# EAGLE library part TPS5124 (library zz-m-pad-2.1)
Ti's TPS5124 dual channel, synchronous step-down PWM controller Description: The TPS5124 is dual independent high efficiency synchronous step-down controller. It supports a low-voltage/high-current power supply applications that use either a 5-V or 12-V bus voltage. Since both controllers of the TPS5124 operate 180 degree out-of-phase, the input current ripple is minimized resulting in a smaller input capacitance and reduced power supply cost. The current protection circuit detects the drain-to-source voltage drop across the high-side and low-side power MOSFET while it is conducting. Also, the current protection circuit has a temperature coefficient to compensate for the RDS(on) variation of the MOSFET. This resistor-less current protection and built-in boost diode simplify the system design and reduces the external parts count. Other features such as undervoltage lockout, overvoltage, undervoltage, and programmable short-circuit protection promote system reliability. Features: High Efficiency - No Current Sense Resistor Required, RDS(on) Overcurrent Detection with Temperature Compensation Adjustable Output Voltage Down to 0.9 V Voltage-Mode PWM Control: Maximum 500-kHz Operation 180° Out-of-Phase Control Individual Standby and Soft-Start for Each Channel - Easy Power Sequencing Overvoltage and Undervoltage Protection Built-In Boot-Strap Diode Built-In 5-V Linear Regulator Accurate ± 1% 0.85-V Reference Applications: Consumer Game Systems DSP Applications Digital Set-Top Box VGA and Sound Cards Please send any comments to: messi@users.sourceforge.net
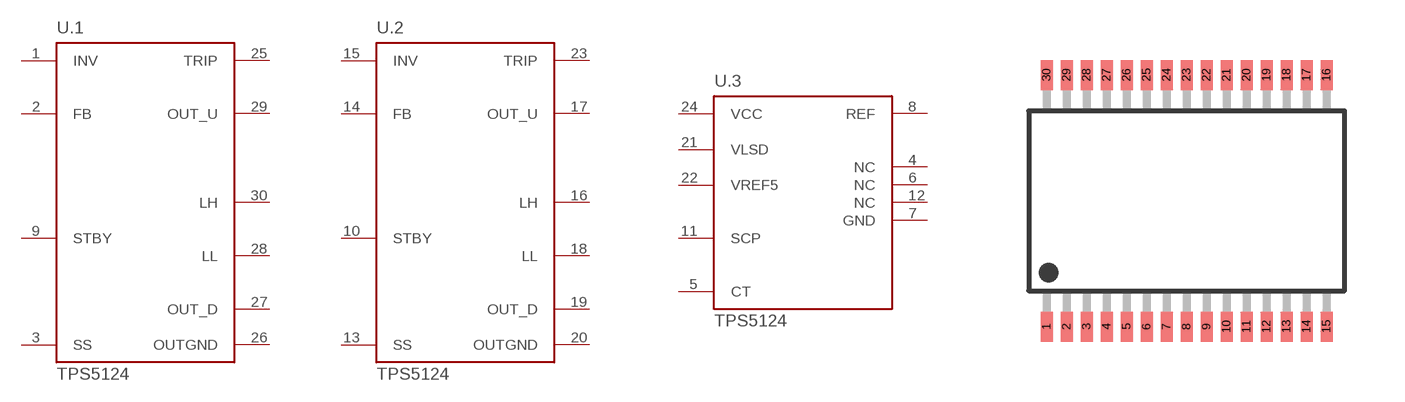
[diagram p168: symbol with the pads of TSSOP30; footprint TSSOP30]

Designator prefix U; gates .1=TPS5124 .2=TPS5124 .3=TPS5124_PWR

## TPS5124  [TSSOP30]
1  .1:INV  in
2  .1:FB  in
3  .1:SS  in
4  .3:NC  nc
5  .3:CT
6  .3:NC  nc
7  .3:GND  pwr
8  .3:REF  out
9  .1:STBY  in
10  .2:STBY  in
11  .3:SCP
12  .3:NC  nc
13  .2:SS  in
14  .2:FB  in
15  .2:INV  in
16  .2:LH  in
17  .2:OUT_U  out
18  .2:LL
19  .2:OUT_D  out
20  .2:OUTGND  out
21  .3:VLSD  pwr
22  .3:VREF5  out
23  .2:TRIP  in
24  .3:VCC  pwr
25  .1:TRIP  in
26  .1:OUTGND  out
27  .1:OUT_D  out
28  .1:LL
29  .1:OUT_U  out
30  .1:LH  in

## Footprint TSSOP30 (pad centres in mm)
smd 0.3 x 0.75: 1 -3.5,-3.15; 2 -3,-3.15; 3 -2.5,-3.15; 4 -2,-3.15; 5 -1.5,-3.15; 6 -1,-3.15; 7 -0.5,-3.15; 8 0,-3.15; 9 0.5,-3.15; 10 1,-3.15; 11 1.5,-3.15; 12 2,-3.15; 13 2.5,-3.15; 14 3,-3.15; 15 3.5,-3.15; 16 3.5,3.15; 17 3,3.15; 18 2.5,3.15; 19 2,3.15; 20 1.5,3.15; 21 1,3.15; 22 0.5,3.15; 23 0,3.15; 24 -0.5,3.15; 25 -1,3.15; 26 -1.5,3.15; 27 -2,3.15; 28 -2.5,3.15; 29 -3,3.15; 30 -3.5,3.15